# Altium schematic symbol library lib.SchLib: 1 symbol
Pins are listed as number, name and electrical type; pins without a type are passive.

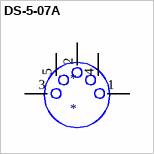
[diagram p0: symbol DS-5-07A]

## DS-5-07A
designator *
MIDI 5-PIN
footprint MIDI-5-PIN-PCB (MIDI 5 PIN FOOTPRINT)
pins: 1 PIN-1, 2 PIN-2, 3 PIN-3, 4 PIN-4, 5 PIN-5